# EAGLE library part IIS328DQ (library TEWSBPPTLibrary)
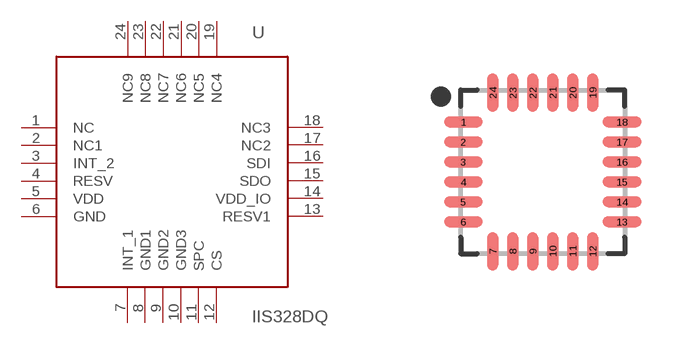
[diagram p2: symbol with the pads of QFN50P400X400X100-24; footprint QFN50P400X400X100-24]

Designator prefix U

## IIS328DQ  [QFN50P400X400X100-24]
1  NC
2  NC1
3  INT_2
4  RESV
5  VDD
6  GND
7  INT_1
8  GND1
9  GND2
10  GND3
11  SPC
12  CS
13  RESV1
14  VDD_IO
15  SDO
16  SDI
17  NC2
18  NC3
19  NC4
20  NC5
21  NC6
22  NC7
23  NC8
24  NC9

## Footprint QFN50P400X400X100-24 (pad centres in mm)
24-QFN, 0.50 mm pitch, 4.00 X 4.00 X 1.00 mm body 24-pin QFN package with 0.50 mm pitch with body size 4.00 X 4.00 X 1.00 mm
smd 0.96 x 0.27: 1 -1.985,1.25; 2 -1.985,0.75; 3 -1.985,0.25; 4 -1.985,-0.25; 5 -1.985,-0.75; 6 -1.985,-1.25; 13 1.985,-1.25; 14 1.985,-0.75; 15 1.985,-0.25; 16 1.985,0.25; 17 1.985,0.75; 18 1.985,1.25
smd 0.27 x 0.96: 7 -1.25,-1.985; 8 -0.75,-1.985; 9 -0.25,-1.985; 10 0.25,-1.985; 11 0.75,-1.985; 12 1.25,-1.985; 19 1.25,1.985; 20 0.75,1.985; 21 0.25,1.985; 22 -0.25,1.985; 23 -0.75,1.985; 24 -1.25,1.985